# EAGLE library part 61301211021 (library Wuerth_Elektronik_eiCan_Pin_&_Socked_Headers_v1.3)
WR-PHD 2.54mm Angled Pin Header, 12 Pins
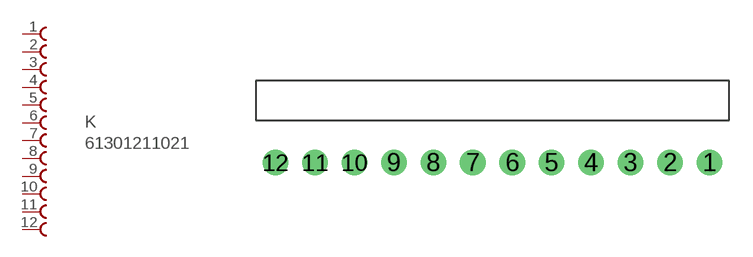
[diagram p44: symbol with the pads of 61301211021; footprint 61301211021]

Designator prefix K

## 61301211021  [61301211021]
1  1  pas
2  2  pas
3  3  pas
4  4  pas
5  5  pas
6  6  pas
7  7  pas
8  8  pas
9  9  pas
10  10  pas
11  11  pas
12  12  pas

## Footprint 61301211021 (pad centres in mm)
WR-PHD 2.54mm Angled Pin Header, 12 Pins
drill 1.1 round: 1 13.97,0; 2 11.43,0; 3 8.89,0; 4 6.35,0; 5 3.81,0; 6 1.27,0; 7 -1.27,0; 8 -3.81,0; 9 -6.35,0; 10 -8.89,0; 11 -11.43,0; 12 -13.97,0